# Altium footprint library TI-TSSOP-16.PcbLib: 1 footprints
Each footprint in its own frame and in the unit in brackets; x right, y up, seen from the top. Pads: shape width x height; smd on the part's side, far side on the other; paste and mask are expansions set on the pad; w line width, h text height; cw(c..) or ccw(c..) is an arc to the next point about the centre after c.
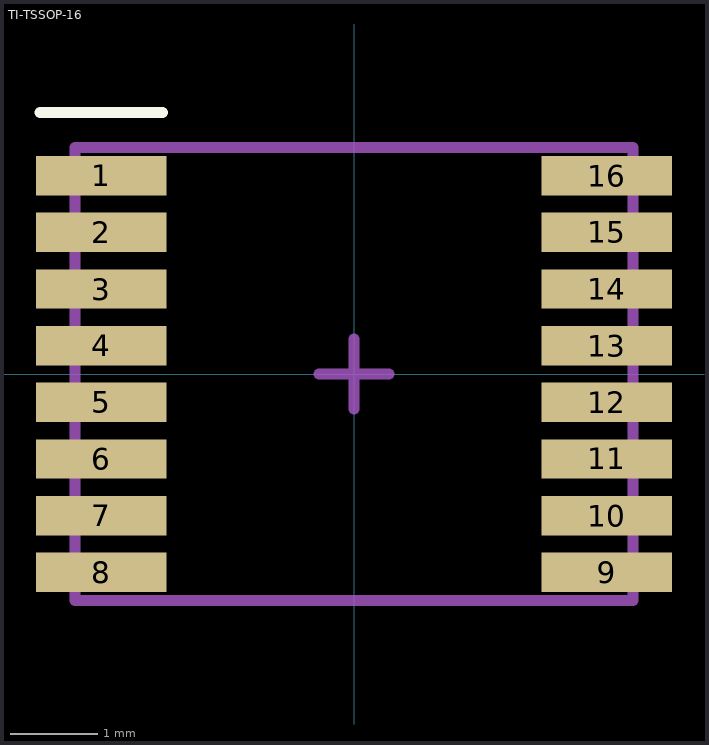
[diagram p0: the footprint, top view; thin cyan lines are the x and y axes]

## TI-TSSOP-16 [mm]
pads (16):
  rect 1.5x0.45 smd mask+0.1: 1(-2.9,2.275) 2(-2.9,1.625) 3(-2.9,0.975) 4(-2.9,0.325) 5(-2.9,-0.325) 6(-2.9,-0.975) 7(-2.9,-1.625) 8(-2.9,-2.275) 9(2.9,-2.275) 10(2.9,-1.625) 11(2.9,-0.975) 12(2.9,-0.325) 13(2.9,0.325) 14(2.9,0.975) 15(2.9,1.625) 16(2.9,2.275)
Top Overlay:
  lines w0.127: -3.6,3 -2.2,3
Mechanical 13 (Mech13):
  lines w0.127: -3.2,-2.6 3.2,-2.6 3.2,2.6 -3.2,2.6 -3.2,-2.6
Mechanical 15:
  lines w0.127: -0.4,0 0,0 ; 0,-0.4 0,0 ; 0,0.4 0,0 ; 0.4,0 0,0
3D body "User Library-TSSOP-16 5_1x4_4.STEP": height 1.1, standoff 0, extent -3.2,-2.55 3.2,2.55